# Altium schematic symbol library Aux Daq Board - Simplified.SCHLIB: 19 symbols
Pins are listed as number, name and electrical type; pins without a type are passive.

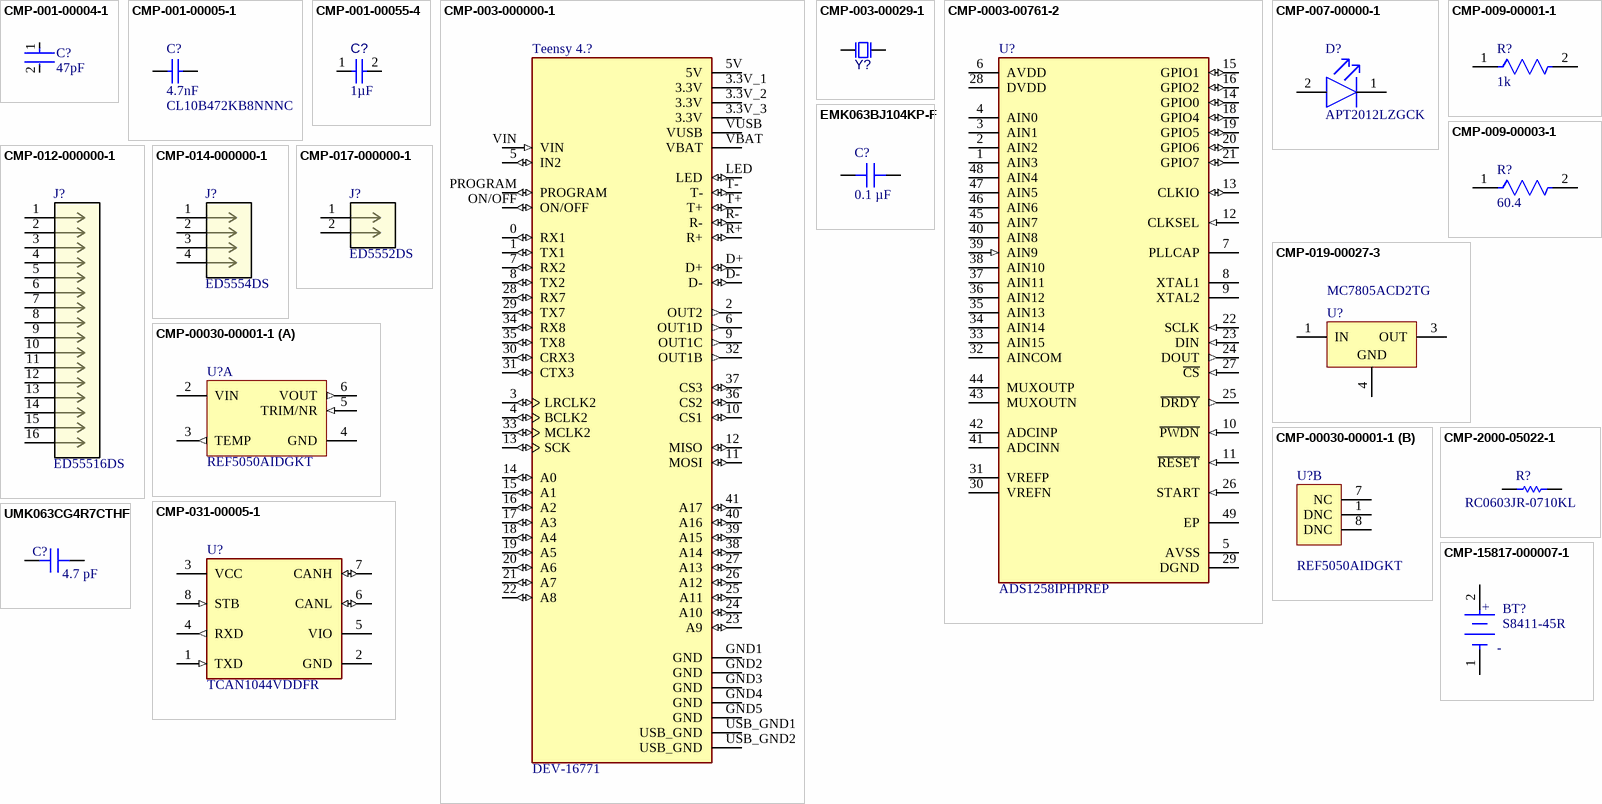
[diagram p0: symbols CMP-001-00004-1 to UMK063CG4R7CTHF]

## CMP-001-00004-1
designator C?, comment value 47pF  (hidden comment: C0603C470K5GACTU)
Ceramic Capacitor, Multilayer, Ceramic, 50V, 10% +Tol, 10% -Tol, C0G, 30ppm/Cel TC, 0.000047uF, Surface Mount, 0603; Manufacturer: KEMET; Multilayer: Yes; RoHS Compliant: Yes; Dielectric Material: Ceramic; Rated DC Voltage (URdc): 50V; Reach SVHC Compliant: Yes; Case/Package: 0603; Termination: Wraparound; JESD-609 Code: e3; Temperature Characteristics Code: C0G; Package Shape: Rectangular; Terminal Finish: Nickel; Packaging: Tape and Reel; Min Operating Temperature: -55°C; Tolerance (fill in as +-): 10%; Mounting Technology: Surface Mount; Width: 0.8mm; Max Operating Temperature: 125°C; Height: 0.8mm; Package Style: SMTMeter; Length: 1.6mm; Pins: 2; Capacitor Type: Ceramic; Tolerance  (fill in as +-): 10%; Manufacturer Part Number: C0603C470K5GACTU; Component Type: Capacitors
footprint FP-C0603C-CF-IPC_B
footprint FP-C0603C-CF-IPC_C
footprint FP-C0603C-CF-IPC_A
footprint FP-C0603C-CF-MFG
pins: 1, 2

## CMP-001-00005-1
designator C?, comment CL10B472KB8NNNC  value 4.7nF
Ceramic Capacitor, Multilayer, Ceramic, 50V, 10% +Tol, 10% -Tol, X7R, 15% TC, 0.0047uF, Surface Mount, 0603; Manufacturer: Samsung; Multilayer: Yes; Capacitor Type: Ceramic; Tolerance (fill in as +-): 10%; Length: 1.6mm; Reach SVHC Compliant: Yes; Min Operating Temperature: -55°C; Mounting Technology: Surface Mount; RoHS Compliant: Yes; Rated DC Voltage (URdc): 50V; Terminal Finish: Nickel; Termination: Wraparound; Temperature Characteristics Code: X7R; Tolerance  (fill in as +-): 10%; JESD-609 Code: e3; Case/Package: 0603; Packaging: Tape and Reel; Package Style: SMTMeter; Package Shape: Rectangular; Max Operating Temperature: 125°C; Height: 0.9mm; Width: 0.8mm; Pins: 2; Dielectric Material: Ceramic; Manufacturer Part Number: CL10B472KB8NNNC; Component Type: Capacitors
footprint CAPC1608X90X30LL10T20 (Chip Capacitor, 2-Leads, Body 1.70x0.90mm, IPC High Density)
footprint CAPC1608X90X30NL10T20 (Chip Capacitor, 2-Leads, Body 1.70x0.90mm, IPC Medium Density)
footprint CAPC1608X90X30ML10T20 (Chip Capacitor, 2-Leads, Body 1.70x0.90mm, IPC Low Density)
pins: 1, 2

## CMP-001-00055-4
designator C?, comment value 1µF  (hidden comment: Capacitor 1µF +/-0.1% 25V 0603)
Chip Capacitor, 1µF +/-0.1%, 25V, 0603, Thickness 1 mm; Manufacturer: TDK; Manufacturer Part Number: CGA3E3X5R1E105K080AB; Manufacturer: Yageo; Manufacturer Part Number: CC0603KRX5R8BB105; Manufacturer: Samsung; Manufacturer Part Number: CL10A105KA8NNNC; Manufacturer Part Number: CL10A105KA8NFNC; Tolerance: 20%; Min Operating Temperature: -55°C; Max Operating Temperature: 85°C; Voltage Rating: 25V; Mounting Technology: SMT; Case/Package: 0603; Pins: 2; Component Type: Capacitors
footprint CAPC0603(1608)100_L (Chip Capacitor, Body 1.6x0.8mm, Height 1.0mm, IPC High Density)
pins: 1, 2

## CMP-003-000000-1
designator Teensy 4.?, comment DEV-16771  (no BOM)
RT1062 Teensy 4.1 series ARM?Cortex?M7 MPU Embedded Evaluation Board; MF: SparkFun Electronics; Value: *; Source: DEV-16771.SchLib; Pin Count: 65; Package: None; MP: DEV-16771; Design Item ID: DEV-16771; Check_prices: https://www.snapeda.com/parts/DEV-16771/SparkFun+Electronics/view-part/?ref=eda; SnapEDA_Link: https://www.snapeda.com/parts/DEV-16771/SparkFun+Electronics/view-part/?ref=snap; Component Type: Standard; Component Type: Integrated Circuits
footprint MODULE_DEV-16771
pins: 0 RX1 (io), 1 TX1 (io), 2 OUT2 (out), 3 LRCLK2 (io), 3.3V_1 3.3V (power), 3.3V_2 3.3V (power), 3.3V_3 3.3V (power), 4 BCLK2 (io), 5 IN2 (io), 5V (power), 6 OUT1D (out), 7 RX2 (io), 8 TX2 (io), 9 OUT1C (out), 10 CS1 (io), 11 MOSI (io), 12 MISO (io), 13 SCK (io), 14 A0 (io), 15 A1 (io), 16 A2 (io), 17 A3 (io), 18 A4 (io), 19 A5 (io), 20 A6 (io), 21 A7 (io), 22 A8 (io), 23 A9 (io), 24 A10 (io), 25 A11 (io), 26 A12 (io), 27 A13 (io), 28 RX7 (io), 29 TX7 (io), 30 CRX3 (io), 31 CTX3 (io), 32 OUT1B (out), 33 MCLK2 (io), 34 RX8 (io), 35 TX8 (io), 36 CS2 (io), 37 CS3 (io), 38 A14 (io), 39 A15 (io), 40 A16 (io), 41 A17 (io), D+ (io), D- (io), GND1 GND (power), GND2 GND (power), GND3 GND (power), GND4 GND (power), GND5 GND (power), LED (io), ON/OFF (io), PROGRAM (io), R+ (io), R- (io), T+ (io), T- (io), USB_GND1 USB_GND (power), USB_GND2 USB_GND (power), VBAT, VIN (in), VUSB

## CMP-003-00029-1
designator Y?, comment ABS07-166-32.768KHZ-T  (value not drawn)
Crystal 32.768kHz 10ppm 7pF -40C +85C; Manufacturer: Abracon; Pins: 2; Frequency: 32.768kHz; Manufacturer Part Number: ABS07-166-32.768KHZ-T; Component Type: Crystals & Oscillators
footprint EPSON-FC-135_V (SMD, 2-Leads, Body 3.2x1.5mm)
pins: 1, 2

## CMP-0003-00761-2
designator U?, comment ADS1258IPHPREP
IC ADC 24BIT SIGMA-DELTA 48HTQFP; Power Consumption: 42mW; Number of Converters: 1; Supply Type: Analog; Max Supply Voltage (DC): 5.25V; Min Dual Supply Voltage: 2.15V; Max Dual Supply Voltage: 2.65V; Polarity: Bipolar; Min Supply Voltage: 4.75V; Operating Supply Voltage: 5V; Dual Supply Voltage: 2.5V; Interface: SPI; Sampling Rate: 125KS/s; Min Supply Voltage (DC): 2.7V; Max Power Dissipation: 62mW; Number of Inputs: 16; Resolution: 24b; Number of Bits: 24; Differential Nonlinearity: 1LSB; Max Operating Temperature: 105°C; Package Quantity: 1; Packaging: Tape and Reel; Number of A/D Converters: 1; Case/Package: HTQFP; Power Dissipation: 62mW; Number of Elements: 1; RoHS Compliant: Yes; Number of Pins: 48; Contact Plating: Gold; Min Operating Temperature: -40°C; Max Supply Voltage: 5.25V; Lead Free: Lead Free
footprint FP-PHP0048C-MFG
footprint FP-PHP0048C-IPC_C
footprint FP-PHP0048C-IPC_B
footprint FP-PHP0048C-IPC_A
pins: 1 AIN3, 2 AIN2, 3 AIN1, 4 AIN0, 5 AVSS, 6 AVDD (power), 7 PLLCAP, 8 XTAL1, 9 XTAL2, 10 ~{PWDN} (in), 11 ~{RESET} (in), 12 CLKSEL (in), 13 CLKIO (io), 14 GPIO0 (io), 15 GPIO1 (io), 16 GPIO2 (io), 18 GPIO4 (io), 19 GPIO5 (io), 20 GPIO6 (io), 21 GPIO7 (io), 22 SCLK (in), 23 DIN (in), 24 DOUT (out), 25 ~{DRDY} (out), 26 START (in), 27 ~{CS} (in), 28 DVDD (power), 29 DGND (power), 30 VREFN, 31 VREFP, 32 AINCOM, 33 AIN15, 34 AIN14, 35 AIN13, 36 AIN12, 37 AIN11, 38 AIN10, 39 AIN9 (in), 40 AIN8, 41 ADCINN, 42 ADCINP, 43 MUXOUTN, 44 MUXOUTP, 45 AIN7, 46 AIN6, 47 AIN5, 48 AIN4, 49 EP (power)

## CMP-007-00000-1
designator D?, comment APT2012LZGCK
Single Color LED, Green, Water Clear, 1.3mm; Manufacturer: Kingbright; RoHS Compliant: Yes; Manufacturer Part Number: APT2012LZGCK; Component Type: LED
footprint FP-APT2012LZGCK-MFG
pins: 1 C, 2 A

## CMP-009-00001-1
designator R?, comment value 1k  (hidden comment: AC0603FR-071KL)
Fixed Resistor, Metal Glaze/thick Film, 0.1W, 1000ohm, 75V, 1% +/-Tol, 100ppm/Cel, Surface Mount, 0603; Manufacturer: Yageo; Package Length: 1.6mm; Power: 100mW; Rated Temperature: 70°C; Reference Standard: AEC-Q200; Package Width: 0.8mm; Package Height: 0.45mm; Additional Feature: LASER TRIMMABLE; Temperature Coefficient (ppm/Cel): 100; Reach SVHC Compliant: Yes; JESD-609 Code: e3; Termination: Wraparound; Pins: 2; Terminal Finish: Nickel; Working Voltage: 75V; Technology: METAL GLAZE/THICK FILM; Packaging: Tape and Reel; Package Shape: Rectangular; Max Operating Temperature: 155°C; Tolerance: 1%; Resistor Type: FIXED RESISTOR; Mounting Technology: Surface Mount; Case/Package: 0603; Min Operating Temperature: -55°C; RoHS Compliant: Yes; Construction: Chip; Manufacturer Part Number: AC0603FR-071KL; Component Type: Resistors
footprint FP-AC0603-IPC_C
footprint FP-AC0603-IPC_B
footprint FP-AC0603-MFG
footprint FP-AC0603-IPC_A
pins: 1, 2

## CMP-009-00003-1
designator R?, comment value 60.4  (hidden comment: CRCW060360R4FKEA)
Fixed Resistor, Metal Glaze/thick Film, 0.1W, 60.4ohm, 75V, 1% +/-Tol, 100ppm/Cel, Surface Mount, 0603; Manufacturer: Vishay; Reference Standard: AEC-Q200; Rated Temperature: 70°C; Package Width: 0.85mm; Package Length: 1.55mm; Temperature Coefficient (ppm/Cel): 100; Package Height: 0.45mm; Power: 100mW; Resistor Type: FIXED RESISTOR; Min Operating Temperature: -55°C; Tolerance: 1%; Termination: Wraparound; Case/Package: 0603; RoHS Compliant: Yes; Working Voltage: 75V; Reach SVHC Compliant: Yes; Terminal Finish: Nickel; Package Shape: Rectangular; Construction: Chip; Pins: 2; Packaging: Tape and Reel; Max Operating Temperature: 155°C; JESD-609 Code: e3; Technology: METAL GLAZE/THICK FILM; Mounting Technology: Surface Mount; Manufacturer Part Number: CRCW060360R4FKEA; Component Type: Resistors
footprint FP-CRCW0603-e3-IPC_C
footprint FP-CRCW0603-e3-IPC_B
footprint FP-CRCW0603-e3-IPC_A
footprint FP-CRCW0603-e3-MFG
pins: 1, 2

## CMP-012-000000-1
designator J?, comment ED55516DS  (no BOM)
No Description Available; Mfr_Name: On Shore Technology; Type: Type; Design Item ID: ED55516DS; RefDes: RefDes; Source: ED55516DS.SchLib; Component Type: Connectors
footprint CONN16_ED555_56X6P5_OST
pins: 1, 2, 3, 4, 5, 6, 7, 8, 9, 10, 11, 12, 13, 14, 15, 16

## CMP-014-000000-1
designator J?, comment ED5554DS  (no BOM)
No Description Available; Mfr_Name: On Shore Technology; Source: ED5554DS.SchLib; Type: Wire to Board; RefDes: RefDes; Design Item ID: ED5554DS; Component Type: Connectors
footprint CONN4_ED5554DS_SHT
pins: 1, 2, 3, 4

## CMP-017-000000-1
designator J?, comment ED5552DS  (no BOM)
No Description Available; Mfr_Name: On Shore Technology; Type: Type; Source: ED5552DS.SchLib; Design Item ID: ED5552DS; RefDes: RefDes; Component Type: Connectors
footprint CONN_ED5552DS_OST
pins: 1, 2

## CMP-019-00027-3
designator U?, comment MC7805ACD2TG  (no BOM)
Positive Voltage Regulator, 5 V Output Voltage, 1 A, 0 to 125 degC, 3-Pin D2PAK (936-03), Pb-Free, Tube; Manufacturer: ON Semiconductor; Min Input Voltage: 7V; Package Version: Rev. E, 09/2015; Output Voltage: 5V; Outputs: 1; Max Input Voltage: 35V; Output Current: 1A; Dropout Voltage: 2V; Mounting Technology: SM; Package Quantity: 50; Manufacturer URL: http://www.onsemi.com/; Package Reference: D2PAK-3-936-03; Nominal Output Voltage: 5V; Packaging: Rail/Tube; Max Operating Temperature: 125°C; Datasheet URL: http://www.onsemi.com/pub_link/Collateral/MC7800-D.PDF; RoHS Compliant: True; Datasheet Version: Rev. 27, 11/2014; Case/Package: TO-263-3; Min Operating Temperature: 0°C; Max Ouput Current: 1A; Package Description: 3-Pin Flange Mount, Body 10.02 x 9.1945 mm, Pitch 2.54 mm; Package URL: http://www.onsemi.com/pub_link/Collateral/936-03.PDF; Pins: 3; Manufacturer Part Number: MC7805ACD2TG; Component Type: Power Supply
footprint ONSC-D2PAK-3-936-03_V (DPAK, 3-Leads, Body 10.24x9.35mm, Pitch 2.54mm)
pins: 1 IN (power), 3 OUT (power), 4 GND (power)

## CMP-00030-00001-1
designator U?, comment REF5050AIDGKT
Three Terminal Voltage Reference, 1 Output, 5V, Trim/Adjustable, PDSO8; Manufacturer: Texas Instruments; Max Operating Temperature: 125°C; Pins: 8; Min Operating Temperature: -40°C; RoHS Compliant: Yes; Case/Package: TSSOP; Manufacturer Part Number: REF5050AIDGKT; Component Type: Miscellaneous
footprint DGK0008A_M (TSOP, 8-Leads, Body 3.1x3.1mm, Pitch 0.65mm, IPC Low Density)
footprint DGK0008A_L (TSOP, 8-Leads, Body 3.1x3.1mm, Pitch 0.65mm, IPC High Density)
footprint DGK0008A_N (TSOP, 8-Leads, Body 3.1x3.1mm, Pitch 0.65mm, IPC Medium Density)
part A pins: 2 VIN (power), 3 TEMP (out), 4 GND (power), 5 TRIM/NR (in), 6 VOUT (out)
part B pins: 1 DNC "No internal connect", 7 NC "No internal connection", 8 DNC "No internal connect"

## CMP-031-00005-1
designator U?, comment TCAN1044VDDFR
Interface Circuit, 1-Trnsvr, PDSO8; Manufacturer: Texas Instruments; Manufacturer Part Number: TCAN1044VDDFR; Component Type: Integrated Circuits
footprint FP-DDF0008A-IPC_A
footprint FP-DDF0008A-IPC_B
footprint FP-DDF0008A-IPC_C
footprint FP-DDF0008A-MFG
pins: 1 TXD (in), 2 GND (power), 3 VCC (power), 4 RXD (out), 5 VIO (power), 6 CANL (io), 7 CANH (io), 8 STB (in)

## CMP-2000-05022-1
designator R?, comment RC0603JR-0710KL
Resistor, 10 KOhm, +/- 5%, 100 mW, -55 to 155 degC, 0603 (1608 Metric), RoHS, Tape and Reel; Manufacturer: Yageo; Resistance: 10kOhms; Voltage Rating: 50V; Temperature Coefficient: 100PPM/C; Power Rating: 100mW; Package Reference: 603; Series: RC; Case Code - mm: 1608; Packaging: Reel; Datasheet URL: http://www.farnell.com/datasheets/443971.pdf; Datasheet Version: Rev. 4, 04/2009; Operating Temperature Range: -55Cto+155C; Product: ThickFilmResistorsGeneralPurpose; Package Description: 2-Pin Surface Mount Device, Body 1.6 x 0.8 mm; Manufacturer URL: http://www.yageo.com/; Case Code - in: 0603; Tolerance: 5%; Termination Style: SMD/SMT
footprint RESC1608X55X25ML10T15 (Chip Resistor, 2-Leads, Body 1.60x0.80mm, IPC Low Density)
footprint RESC1608X55X25NL10T15 (Chip Resistor, 2-Leads, Body 1.70x0.90mm, IPC Medium Density)
footprint RESC1608X55X25LL10T15 (Chip Resistor, 2-Leads, Body 1.60x0.80mm, IPC High Density)
pins: 1, 2

## CMP-15817-000007-1
designator BT?, comment S8411-45R
BATTERY HOLDER COIN 12MM SMD; Number of Batteries: 1; Material: Polyphenylene; Case/Package: SMD/SMT; Number of Cells: 1; Min Operating Temperature: -55°C; Termination: SMD/SMT; REACH SVHC: No SVHC; Contact Plating: Bronze; Package Quantity: 500; Max Operating Temperature: 105°C; Mount: Surface Mount; Packaging: Tape and Reel
footprint FP-S8411-45R-MFG
pins: 1 C, 2 A
text: +; -

## EMK063BJ104KP-F
designator C?, comment 0.1 µF
CAP CER 0.1UF 16V X5R 0201; Part Number: EMK063BJ104KP-F; manufacturer: Taiyo Yuden; Tolerance: ±10%; Capacitance: 0.1 µF; Applications: SMPS Filtering; componentlink1description: Datasheet; componentlink1url: https://ds.yuden.co.jp/TYCOMPAS/ut/detail?pn=EMK063BJ104KP-F  &u=M; componentlink2description: DigiKey Link; componentlink2url: https://www.digikey.com/en/products/detail/taiyo-yuden/EMK063BJ104KP-F/4970625; Device Package: 0201 (0603 Metric); lastupdated: 6/4/2024 7:01:11 PM; Lifecycle Status: Active; Minimum Order: 1; Mounting Type: Surface Mount, MLCC; Operating Temperature: -55°C ~ 85°C; Package / Case: 0201 (0603 Metric); packaging: TapeAndReel; partid: 12; Part Status: Active; price: 0.01; series: M; Size / Dimension: 0.024" L x 0.012" W (0.60mm x 0.30mm); Supplier 1: DigiKey; Supplier Part Number 1: 587-5833-1-ND; Temperature Coefficient: X5R; Thickness (Max): 0.013" (0.33mm); value: 0.1 µF; Voltage - Rated: 16V
footprint CAP 0201_0603
pins: 1, 2

## UMK063CG4R7CTHF
designator C?, comment 4.7 pF
CAP CER 4.7PF 50V C0G/NP0 0201; Part Number: UMK063CG4R7CTHF; manufacturer: Taiyo Yuden; Temperature Coefficient: C0G, NP0; Tolerance: ±0.25pF; Capacitance: 4.7 pF; Applications: Automotive; componentlink1description: Datasheet; componentlink1url: https://ds.yuden.co.jp/TYCOMPAS/ut/detail?pn=UMK063CG4R7CTHF &u=M; componentlink2description: DigiKey Link; componentlink2url: https://www.digikey.com/en/products/detail/taiyo-yuden/UMK063CG4R7CTHF/7066072; Device Package: 0201 (0603 Metric); lastupdated: 6/4/2024 7:01:11 PM; Lifecycle Status: Active; Minimum Order: 1; Mounting Type: Surface Mount, MLCC; Operating Temperature: -55°C ~ 125°C; Package / Case: 0201 (0603 Metric); packaging: TapeAndReel; partid: 176; Part Status: Active; price: 0.01; Ratings: AEC-Q200; series: M; Size / Dimension: 0.024" L x 0.012" W (0.60mm x 0.30mm); Supplier 1: DigiKey; Supplier Part Number 1: 587-5337-1-ND; Thickness (Max): 0.013" (0.33mm); value: 4.7 pF; Voltage - Rated: 50V
footprint CAP 0201_0603
pins: 1, 2